# Altium integrated library RF Micro RF and IF Modulator-Demodulator.IntLib: 7 symbols
Pins are listed as number, name and electrical type; pins without a type are passive.

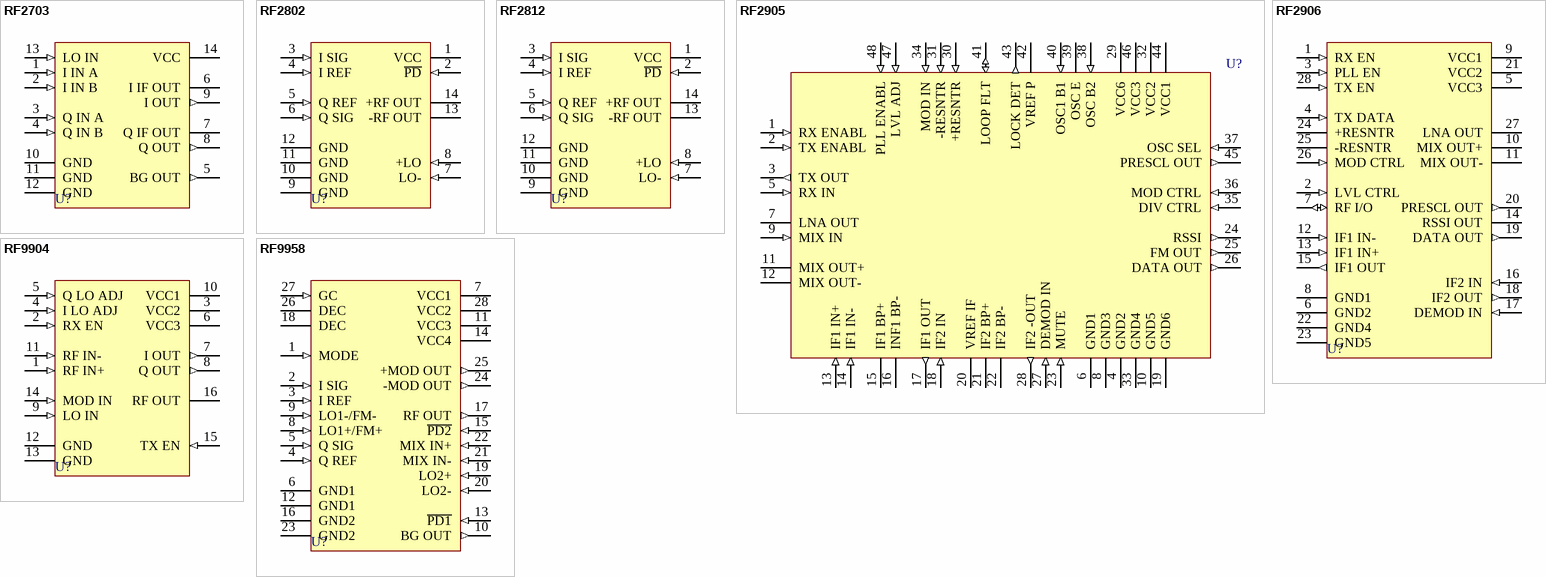
[diagram p0: symbols RF2703 to RF9958]

## RF2703
designator U?
Quadrature Modulator/Demodulator; Published: 8-Jun-2000; LatestRevisionDate: 13-Apr-2006; LatestRevisionNote: IPC-7351 Footprint Added.; DatasheetVersion: Apr-1997; PackageVersion: 1997; PackageReference: SOP-14; Publisher: Altium Limited; PackageDescription: 14-Pin Small Outline Integrated Circuit 1.27 mm Pitch; Code_IPC: SOIC127P600-14; ComponentLink1Description: Manufacturer Link; ComponentLink1URL: http://www.rfmd.com/
footprint SOP-14_N (SOIC, 14-Leads, Body 8.7x3.9mm, Pitch 1.27mm, IPC Medium Density)
footprint SOP-14_L (SOIC, 14-Leads, Body 8.7x3.9mm, Pitch 1.27mm, IPC High Density)
footprint SOP-14_M (SOIC, 14-Leads, Body 8.7x3.9mm, Pitch 1.27mm, IPC Low Density)
pins: 1 I IN A (in), 2 I IN B (in), 3 Q IN A (in), 4 Q IN B (in), 5 BG OUT (out), 6 I IF OUT (oc), 7 Q IF OUT (oc), 8 Q OUT (out), 9 I OUT (out), 10 GND (power), 11 GND (power), 12 GND (power), 13 LO IN (in), 14 VCC (power)

## RF2802
designator U?
VHF Quadrature Modulator; Published: 8-Jun-2000; LatestRevisionDate: 13-Apr-2006; LatestRevisionNote: IPC-7351 Footprint Added.; DatasheetVersion: Apr-1997; PackageVersion: 1997; PackageReference: SOP-14; Publisher: Altium Limited; PackageDescription: 14-Pin Small Outline Integrated Circuit 1.27 mm Pitch; Code_IPC: SOIC127P600-14; ComponentLink1Description: Manufacturer Link; ComponentLink1URL: http://www.rfmd.com/
footprint SOP-14_N (SOIC, 14-Leads, Body 8.7x3.9mm, Pitch 1.27mm, IPC Medium Density)
footprint SOP-14_L (SOIC, 14-Leads, Body 8.7x3.9mm, Pitch 1.27mm, IPC High Density)
footprint SOP-14_M (SOIC, 14-Leads, Body 8.7x3.9mm, Pitch 1.27mm, IPC Low Density)
pins: 1 VCC (power), 2 ~{PD} (in), 3 I SIG (in), 4 I REF (in), 5 Q REF (in), 6 Q SIG (in), 7 LO- (in), 8 +LO (in), 9 GND (power), 10 GND (power), 11 GND (power), 12 GND (power), 13 -RF OUT (oc), 14 +RF OUT (oc)

## RF2812
designator U?
VHF Quadrature Modulator; Published: 8-Jun-2000; LatestRevisionDate: 13-Apr-2006; LatestRevisionNote: IPC-7351 Footprint Added.; DatasheetVersion: Apr-1997; PackageVersion: 1997; PackageReference: SOP-14; Publisher: Altium Limited; PackageDescription: 14-Pin Small Outline Integrated Circuit 1.27 mm Pitch; Code_IPC: SOIC127P600-14; ComponentLink1Description: Manufacturer Link; ComponentLink1URL: http://www.rfmd.com/
footprint SOP-14_N (SOIC, 14-Leads, Body 8.7x3.9mm, Pitch 1.27mm, IPC Medium Density)
footprint SOP-14_L (SOIC, 14-Leads, Body 8.7x3.9mm, Pitch 1.27mm, IPC High Density)
footprint SOP-14_M (SOIC, 14-Leads, Body 8.7x3.9mm, Pitch 1.27mm, IPC Low Density)
pins: 1 VCC (power), 2 ~{PD} (in), 3 I SIG (in), 4 I REF (in), 5 Q REF (in), 6 Q SIG (in), 7 LO- (in), 8 +LO (in), 9 GND (power), 10 GND (power), 11 GND (power), 12 GND (power), 13 -RF OUT (oc), 14 +RF OUT (oc)

## RF2905
designator U?
433/915MHZ FM/AM, FSK/ASK/OOK Transceiver; ComponentAvailability: Not for New Design; Published: 8-Jun-2000; LatestRevisionDate: 13-Apr-2006; LatestRevisionNote: IPC-7351 Footprint Added.; DatasheetVersion: Rev. B12; PackageVersion: Apr-1997; PackageReference: LQFP-48; Publisher: Altium Limited; PackageDescription: 48-Pin Thin Quad Flat Pack 0.5 mm Pitch; ComponentLink1Description: Manufacturer Link; ComponentLink1URL: http://www.rfmd.com/; ComponentLink2Description: Datasheet; ComponentLink2URL: http://www.rfmd.com/DataBooks/db97/2905.pdf
footprint LQFP-48_N (Thin QFP, 48-Leads, Body 7x7mm, Pitch 0.5mm, IPC Medium Density)
footprint LQFP-48_L (Thin QFP, 48-Leads, Body 7x7mm, Pitch 0.5mm, IPC High Density)
footprint LQFP-48_M (Thin QFP, 48-Leads, Body 7x7mm, Pitch 0.5mm, IPC Low Density)
pins: 1 RX ENABL (in), 2 TX ENABL (in), 3 TX OUT (out), 4 GND2 (power), 5 RX IN (in), 6 GND1 (power), 7 LNA OUT (oc), 8 GND3 (power), 9 MIX IN (in), 10 GND5 (power), 11 MIX OUT+, 12 MIX OUT-, 13 IF1 IN+ (in), 14 IF1 IN- (in), 15 IF1 BP+, 16 INF1 BP-, 17 IF1 OUT (out), 18 IF2 IN (in), 19 GND6 (power), 20 VREF IF, 21 IF2 BP+, 22 IF2 BP-, 23 MUTE (in), 24 RSSI (out), 25 FM OUT (out), 26 DATA OUT (out), 27 DEMOD IN (in), 28 IF2 -OUT (out), 29 VCC6 (power), 30 +RESNTR (in), 31 -RESNTR (in), 32 VCC2 (power), 33 GND4 (power), 34 MOD IN (in), 35 DIV CTRL (in), 36 MOD CTRL (in), 37 OSC SEL (in), 38 OSC B2 (in), 39 OSC E, 40 OSC1 B1 (in), 41 LOOP FLT (io), 42 VREF P, 43 LOCK DET (out), 44 VCC1 (power), 45 PRESCL OUT (out), 46 VCC3 (power), 47 LVL ADJ (in), 48 PLL ENABL (in)

## RF2906
designator U?
433MHZ PSK/FM/AM Data Transceiver; Published: 8-Jun-2000; LatestRevisionDate: 17-Jul-2002; LatestRevisionNote: Re-released for DXP Platform.; DatasheetVersion: Apr-1997; PackageVersion: 1997; PackageReference: SSOP-28; Publisher: Altium Limited; PackageDescription: SSOP; 28 Leads; Body Width 3.9 mm; Pitch 0.64 mm; ComponentLink1Description: Manufacturer Link; ComponentLink1URL: http://www.rfmd.com/
footprint SSOP-28 (SSOP; 28 Leads; Body Width 3.9 mm; Pitch 0.64 mm)
pins: 1 RX EN (in), 2 LVL CTRL (in), 3 PLL EN (in), 4 TX DATA (in), 5 VCC3 (power), 6 GND2 (power), 7 RF I/O (io), 8 GND1 (power), 9 VCC1 (power), 10 MIX OUT+ (oc), 11 MIX OUT- (oc), 12 IF1 IN- (in), 13 IF1 IN+ (in), 14 RSSI OUT (oe), 15 IF1 OUT (out), 16 IF2 IN (in), 17 DEMOD IN (in), 18 IF2 OUT (out), 19 DATA OUT (out), 20 PRESCL OUT (out), 21 VCC2 (power), 22 GND4 (power), 23 GND5 (power), 24 +RESNTR (oc), 25 -RESNTR (oc), 26 MOD CTRL (in), 27 LNA OUT (oc), 28 TX EN (in)

## RF9904
designator U?
Integrated Transceiver; Published: 8-Jun-2000; LatestRevisionDate: 13-Apr-2006; LatestRevisionNote: IPC-7351 Footprint Added.; DatasheetVersion: Apr-1997; PackageVersion: 1997; PackageReference: SOP-16; Publisher: Altium Limited; PackageDescription: 16-Pin Small Outline Integrated Circuit 1.27 mm Pitch; Code_IPC: SOIC127P600-16; ComponentLink1Description: Manufacturer Link; ComponentLink1URL: http://www.rfmd.com/
footprint SOP-16_N (SOIC, 16-Leads, Body 9.9x3.9mm, Pitch 1.27mm, IPC Medium Density)
footprint SOP-16_L (SOIC, 16-Leads, Body 9.9x3.9mm, Pitch 1.27mm, IPC High Density)
footprint SOP-16_M (SOIC, 16-Leads, Body 9.9x3.9mm, Pitch 1.27mm, IPC Low Density)
pins: 1 RF IN+ (in), 2 RX EN (in), 3 VCC2 (power), 4 I LO ADJ (in), 5 Q LO ADJ (in), 6 VCC3 (power), 7 I OUT (out), 8 Q OUT (out), 9 LO IN (in), 10 VCC1 (power), 11 RF IN- (in), 12 GND (power), 13 GND (power), 14 MOD IN (in), 15 TX EN (in), 16 RF OUT (oc)

## RF9958
designator U?
CDMA/FM Transmit Modulator, IF AGC and Upconverter; ComponentAvailability: Not for New Design; Published: 8-Jun-2000; LatestRevisionDate: 17-Jul-2002; LatestRevisionNote: Re-released for DXP Platform.; DatasheetVersion: Rev. B13; PackageVersion: 1997; PackageReference: SSOP-28; Publisher: Altium Limited; PackageDescription: SSOP; 28 Leads; Body Width 3.9 mm; Pitch 0.64 mm; ComponentLink1Description: Manufacturer Link; ComponentLink1URL: http://www.rfmd.com/; ComponentLink2Description: Datasheet; ComponentLink2URL: http://www.rfmd.com/DataBooks/db97/9958.pdf
footprint SSOP-28 (SSOP; 28 Leads; Body Width 3.9 mm; Pitch 0.64 mm)
pins: 1 MODE (in), 2 I SIG (in), 3 I REF (in), 4 Q REF (in), 5 Q SIG (in), 6 GND1 (power), 7 VCC1 (power), 8 LO1+/FM+ (in), 9 LO1-/FM- (in), 10 BG OUT (out), 11 VCC3 (power), 12 GND1 (power), 13 ~{PD1} (in), 14 VCC4 (power), 15 ~{PD2} (in), 16 GND2 (power), 17 RF OUT (out), 18 DEC, 19 LO2+ (in), 20 LO2- (in), 21 MIX IN- (in), 22 MIX IN+ (in), 23 GND2 (power), 24 -MOD OUT (out), 25 +MOD OUT (out), 26 DEC, 27 GC (in), 28 VCC2 (power)